# Altium footprint library motorctrl.PcbLib: 2 footprints
Each footprint in its own frame and in the unit in brackets; x right, y up, seen from the top. Pads: shape width x height; smd on the part's side, far side on the other; paste and mask are expansions set on the pad; w line width, h text height; cw(c..) or ccw(c..) is an arc to the next point about the centre after c.
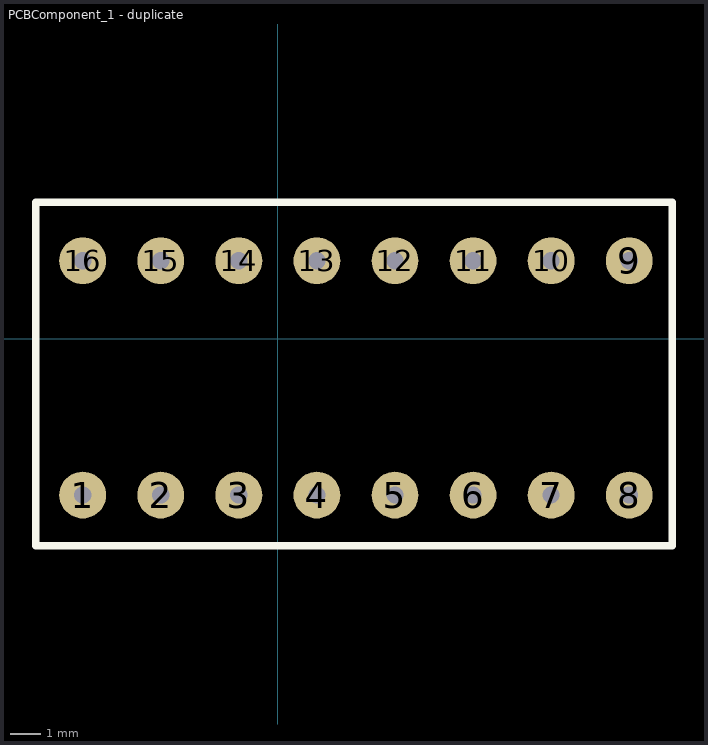
[diagram p0: the footprints below, top view; thin cyan lines are the x and y axes]

## PCBComponent_1 [mil]

## PCBComponent_1 - duplicate [mil]
pads (16):
  round 60 hole 22: 1(-250,-200) 2(-150,-200) 3(-50,-200) 4(50,-200) 5(150,-200) 6(250,-200) 7(350,-200) 8(450,-200) 9(450,100) 10(350,100) 11(250,100) 12(150,100) 13(50,100) 14(-50,100) 15(-150,100) 16(-250,100)
Top Overlay:
  lines w10: -310,-265 -310,175 -290,175 505,175 505,-265 -310,-265